# Altium footprint library RGB_Lib.PcbLib: 1 footprints
Each footprint in its own frame and in the unit in brackets; x right, y up, seen from the top. Pads: shape width x height; smd on the part's side, far side on the other; paste and mask are expansions set on the pad; w line width, h text height; cw(c..) or ccw(c..) is an arc to the next point about the centre after c.
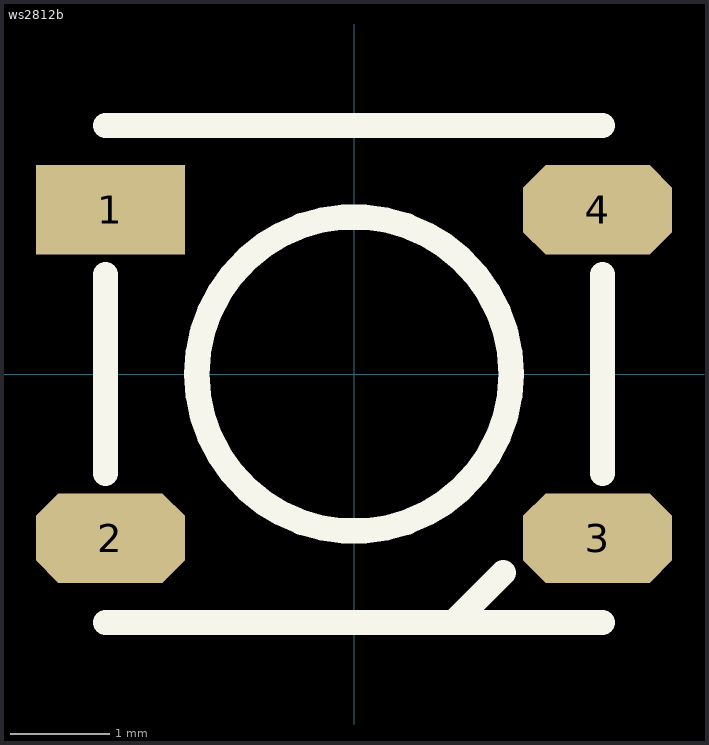
[diagram p0: the footprint, top view; thin cyan lines are the x and y axes]

## ws2812b [mm] "RGB diode with integrated driver"
pads (4):
  rect 1.5x0.9 smd: 1(-2.45,1.65)
  oct 1.5x0.9 smd: 2(-2.45,-1.65) 3(2.45,-1.65) 4(2.45,1.65)
Top Overlay:
  circle w0.254: c0,0 r1.581
  lines w0.254: -2.5,-2.5 2.5,-2.5 ; -2.5,-1 -2.5,1 ; -2.5,2.5 2.5,2.5 ; 1,-2.5 1.5,-2 ; 2.5,-1 2.5,1